# Altium schematic symbol library Analog_IC.SchLib: 13 symbols
Pins are listed as number, name and electrical type; pins without a type are passive.

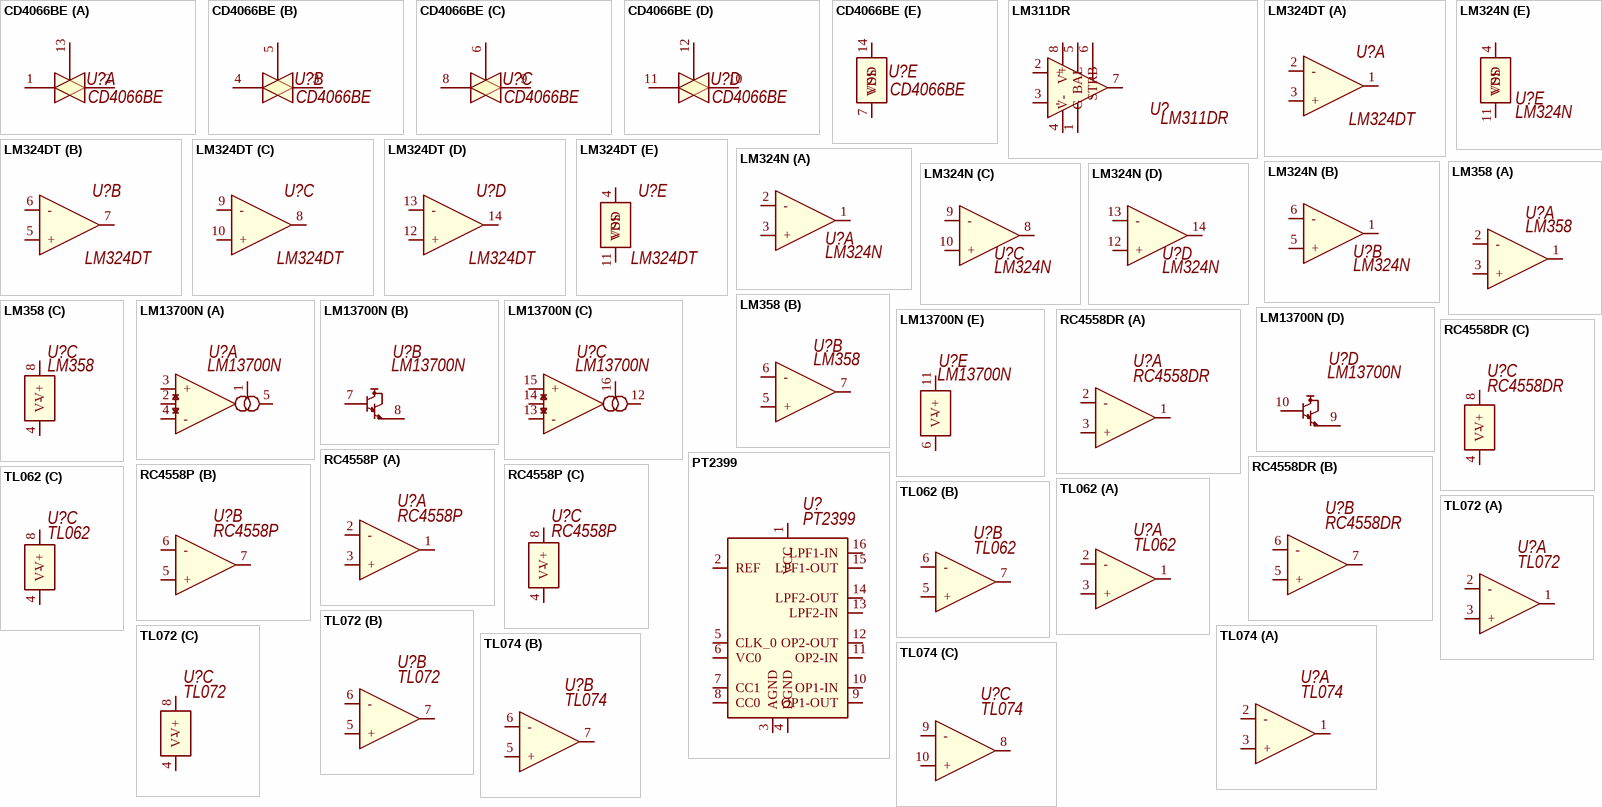
[diagram p0: symbols CD4066BE to TL074]

## CD4066BE
designator U?
10-pA, 20-V, 1:1 (SPST), 4-channel analog switch 14-PDIP; Model: CD4066BE
footprint DIP-14
footprint DIP-14_LONG_PADS
part A pins: 1, 2, 13
part B pins: 3, 4, 5
part C pins: 6, 8, 9
part D pins: 10, 11, 12
part E pins: 7 VSS, 14 VDD

## LM311DR
designator U?
High Speed, 30V, Differential Comparator With Strobes 8-SOIC 0 to 70; Model: LM311DR
footprint SOIC-8
pins: 1 G, 2 +, 3 -, 4 V-, 5 BAL, 6 STRB, 7, 8 V+

## LM324DT
designator U?
General Purpose Amplifier 4 Circuit; Model: LM324DT
footprint SOIC-14
part A pins: 1, 2 -, 3 +
part B pins: 5 +, 6 -, 7
part C pins: 8, 9 -, 10 +
part D pins: 12 +, 13 -, 14
part E pins: 4 VDD, 11 VSS

## LM324N
designator U?
Low-Power, Quad-Operational Amplifiers; Model: LM324N
footprint DIP-14
footprint DIP-14_LONG_PADS
part A pins: 1, 2 -, 3 +
part B pins: 1, 5 +, 6 -
part C pins: 8, 9 -, 10 +
part D pins: 12 +, 13 -, 14
part E pins: 4 VDD, 11 VSS

## LM358
designator U?
2-Channel, 1MHz, industry standard, 32V op amp 8-SOIC 0 to 70; Model: LM358
footprint SOIC-8
part A pins: 1, 2 -, 3 +
part B pins: 5 +, 6 -, 7
part C pins: 4 V-, 8 V+

## LM13700N
designator U?
Dual Operational Transconductance Amplifiers With Linearizing Diodes and Buffers; Model: LM13700N
footprint DIP-16
footprint DIP-16_LONG_PADS
part A pins: 1, 2, 3 +, 4 -, 5
part B pins: 7, 8
part C pins: 12, 13 -, 14, 15 +, 16
part D pins: 9, 10
part E pins: 6 V-, 11 V+

## PT2399
designator U?
a single chip echo processor IC utilizing CMOS technology; Model: PT2399
footprint DIP-16
footprint DIP-16_LONG_PADS
pins: 1 VCC, 2 REF, 3 AGND, 4 DGND, 5 CLK_0, 6 VC0, 7 CC1, 8 CC0, 9 OP1-OUT, 10 OP1-IN, 11 OP2-IN, 12 OP2-OUT, 13 LPF2-IN, 14 LPF2-OUT, 15 LPF1-OUT, 16 LPF1-IN

## RC4558DR
designator U?
Dual General-Purpose Operational Amplifier; Model: RC4558DR
footprint SOIC-8
part A pins: 1, 2 -, 3 +
part B pins: 5 +, 6 -, 7
part C pins: 4 V-, 8 V+

## RC4558P
designator U?
Dual General-Purpose Operational Amplifier; Model: RC4558P
footprint DIP-8
footprint DIP-8_Long_Pads
part A pins: 1, 2 -, 3 +
part B pins: 5 +, 6 -, 7
part C pins: 4 V-, 8 V+

## TL062
designator U?
Dual Operational Amplifiers, DIP-8/SOIC-8/TSSOP-8/VSSOP-8; Model: TL062
footprint DIP-8
footprint DIP-8_Long_Pads
part A pins: 1, 2 -, 3 +
part B pins: 5 +, 6 -, 7
part C pins: 4 V-, 8 V+

## TL072
designator U?
Low-Noise FET-Input Operational Amplifiers; Model: TL072
footprint DIP-8
footprint DIP-8_Long_Pads
footprint SOIC-8
part A pins: 1, 2 -, 3 +
part B pins: 5 +, 6 -, 7
part C pins: 4 V-, 8 V+

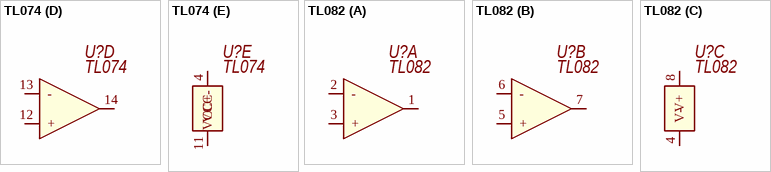
[diagram p1: symbols TL074 to TL082]

## TL074
designator U?
Quad Low-Noise JFET-Input General-Purpose Operational Amplifier; Model: TL074
footprint DIP-14
footprint DIP-14_LONG_PADS
footprint SOIC-14
part A pins: 1, 2 -, 3 +
part B pins: 5 +, 6 -, 7
part C pins: 8, 9 -, 10 +
part D pins: 12 +, 13 -, 14
part E pins: 4 VCC+, 11 VCC-

## TL082
designator U?
Wide Bandwidth Dual JFET Input Operational Amplifier; Model: TL082
footprint DIP-8
footprint DIP-8_Long_Pads
footprint SOIC-8
part A pins: 1, 2 -, 3 +
part B pins: 5 +, 6 -, 7
part C pins: 4 V-, 8 V+